# Altium schematic symbol library Sensors_Optical_Photointerrupters_GOST.SchLib: 1 symbol
Pins are listed as number, name and electrical type; pins without a type are passive.

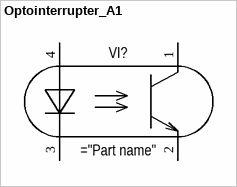
[diagram p0: symbol Optointerrupter_A1]

## Optointerrupter_A1
designator VI?
pins: 1 "Cathode", 2 "Cathode", 3 "Cathode", 4 "Anode"